# EAGLE library part TF-HOLDER (library sd-mmc)
TF / Micro SD socket is PUSH-PUSH type, the card can be pushed into and auto locked and pushed out by simply press the card. Surface Mounting type.
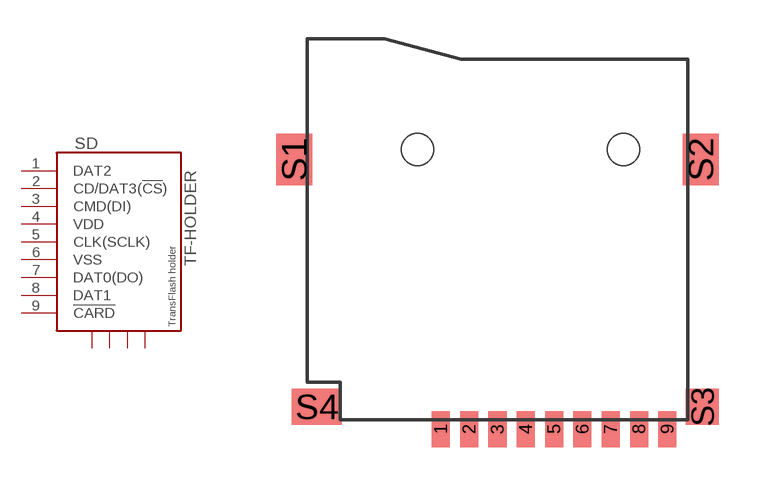
[diagram p2: symbol with the pads of TF-PULL; footprint TF-PULL]

Designator prefix SD

## TF-HOLDER  [TF-PULL]
1  DAT2
2  CD/DAT3(!CS!)
3  CMD(DI)
4  VDD  pwr
5  CLK(SCLK)  in
6  VSS  pwr
7  DAT0(DO)
8  DAT1
9  !CARD  pas
S1  S1  pas
S2  S2  pas
S3  S3  pas
S4  S4  pas

## Footprint TF-PULL (pad centres in mm)
TF / Micro SD socket is PUSH-PUSH type, the card can be pushed into and auto locked and pushed out by simply press the card. Surface Mounting type.
smd 0.7 x 1.4: 1 -2.2,-7.62; 2 -1.1,-7.62; 3 0,-7.62; 4 1.1,-7.62; 5 2.2,-7.62; 6 3.3,-7.62; 7 4.4,-7.62; 8 5.5,-7.62; 9 6.6,-7.62
smd 1.4 x 2: S1 -7.9,2.85; S2 7.9,2.85
smd 1.28 x 1.4: S3 7.96,-6.75
smd 1.95 x 1.4: S4 -7.025,-6.75
hole 1.25 at -3.1,3.25
hole 1.25 at 4.9,3.25